# EAGLE library part TPS63001DRCR (library TPS63001DRCR)
Switching Voltage Regulators 96% Buck-Boost Conv Source: Datasheet <https://datasheet.lcsc.com/szlcsc/Texas-Instruments-TI-TPS63001DRCR_C28060.pdf>
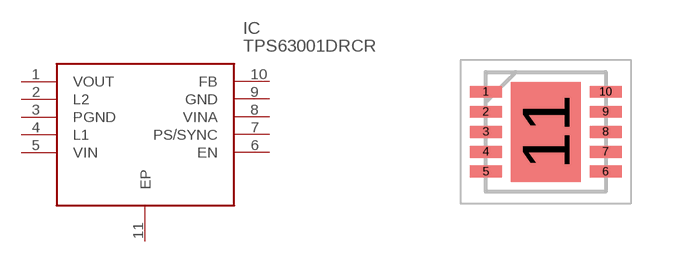
[diagram p0: symbol with the pads of SON50P300X300X100-11N; footprint SON50P300X300X100-11N]

Designator prefix IC

## TPS63001DRCR (Arrow_Part_Number: TPS63001DRCR; Arrow_Price-Stock: https://www.arrow.com/en/products/tps63001drcr/texas-instruments; Description: Switching Voltage Regulators 96% Buck-Boost Conv; Height: 1mm; Manufacturer_Name: Texas Instruments; Manufacturer_Part_Number: TPS63001DRCR; Mouser_Part_Number: 595-TPS63001DRCR; Mouser_Price-Stock: https://www.mouser.co.uk/ProductDetail/Texas-Instruments/TPS63001DRCR/?qs=QZuYiDxzHagn01UZf%2F%252B1Bw%3D%3D)  [SON50P300X300X100-11N]
1  VOUT
2  L2
3  PGND
4  L1
5  VIN
6  EN
7  PS/SYNC
8  VINA
9  GND
10  FB
11  EP

## Footprint SON50P300X300X100-11N (pad centres in mm)
DRC (S-PVSON-N10) D-shape
smd 0.8 x 0.3: 1 -1.5,1; 2 -1.5,0.5; 3 -1.5,0; 4 -1.5,-0.5; 5 -1.5,-1; 6 1.5,-1; 7 1.5,-0.5; 8 1.5,0; 9 1.5,0.5; 10 1.5,1
smd 1.75 x 2.5: 11 0,0